# Altium footprint library IND_CHIP_1919_BOURNS.PcbLib: 1 footprints
Each footprint in its own frame and in the unit in brackets; x right, y up, seen from the top. Pads: shape width x height; smd on the part's side, far side on the other; paste and mask are expansions set on the pad; w line width, h text height; cw(c..) or ccw(c..) is an arc to the next point about the centre after c.
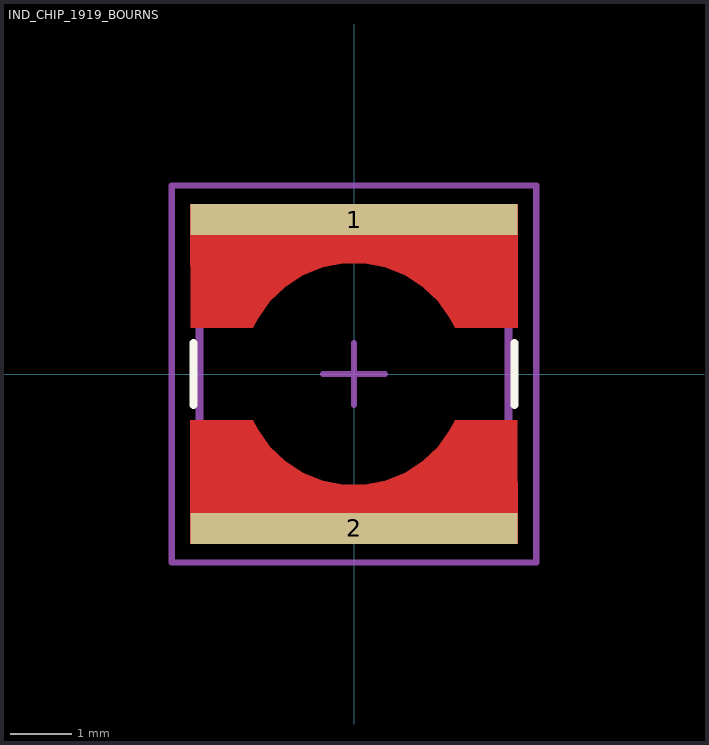
[diagram p0: the footprint, top view; thin cyan lines are the x and y axes]

## IND_CHIP_1919_BOURNS [mm]
height 2
pads (2):
  rect 5.3x0.5 smd: 1(0,2.5) 2(0,-2.5)
Top Layer:
  region: -2.645,0.745 -1.639,0.745 -1.56,0.897 -1.362,1.177 -1.114,1.414 -0.826,1.599 -0.508,1.727 -0.171,1.792 0.171,1.792 0.508,1.727 0.826,1.599 1.114,1.414 1.362,1.177 1.56,0.897 1.639,0.745 2.645,0.745 2.65,0.75 2.65,2.75 -2.65,2.75
  region: 2.645,-0.745 1.639,-0.745 1.56,-0.897 1.362,-1.177 1.114,-1.414 0.826,-1.599 0.508,-1.727 0.171,-1.792 -0.171,-1.792 -0.508,-1.727 -0.826,-1.599 -1.114,-1.414 -1.362,-1.177 -1.56,-0.897 -1.639,-0.745 -2.645,-0.745 -2.65,-0.75 -2.65,-2.75 2.65,-2.75
Top Overlay:
  lines w0.127: -2.6,-0.5 -2.6,0.5 ; 2.6,-0.5 2.6,0.5
Mechanical 13:
  lines w0.127: -2.5,-2.5 -2.5,2.5 2.5,2.5 2.5,-2.5 -2.5,-2.5
Mechanical 15:
  lines w0.1: -0.5,0 0.5,0 ; 0,-0.5 0,0.5 ; -2.95,-3.05 2.95,-3.05 2.95,3.05 -2.95,3.05 -2.95,-3.05